# EAGLE library part 210-10MS (library Micromouse 2020)
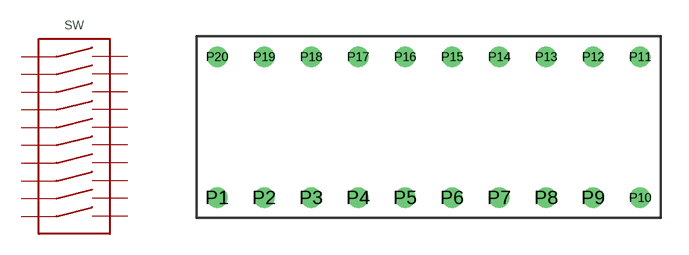
[diagram p6: symbol with the pads of 210-10MS; footprint 210-10MS]

Designator prefix SW

## 210-10MS  [210-10MS]
P1  1A  pas
P2  2A  pas
P3  3A  pas
P4  4A  pas
P5  5A  pas
P6  6A  pas
P7  7A  pas
P8  8A  pas
P9  9A  pas
P10  10A  pas
P11  10B  pas
P12  9B  pas
P13  8B  pas
P14  7B  pas
P15  6B  pas
P16  5B  pas
P17  4B  pas
P18  3B  pas
P19  2B  pas
P20  1B  pas

## Footprint 210-10MS (pad centres in mm)
drill 0.6: P1 -11.43,-3.81; P2 -8.89,-3.81; P3 -6.35,-3.81; P4 -3.81,-3.81; P5 -1.27,-3.81; P6 1.27,-3.81; P7 3.81,-3.81; P8 6.35,-3.81; P9 8.89,-3.81; P10 11.43,-3.81; P11 11.43,3.81; P12 8.89,3.81; P13 6.35,3.81; P14 3.81,3.81; P15 1.27,3.81; P16 -1.27,3.81; P17 -3.81,3.81; P18 -6.35,3.81; P19 -8.89,3.81; P20 -11.43,3.81